# EAGLE library part HARFLEX-1515012-601 (library customics)
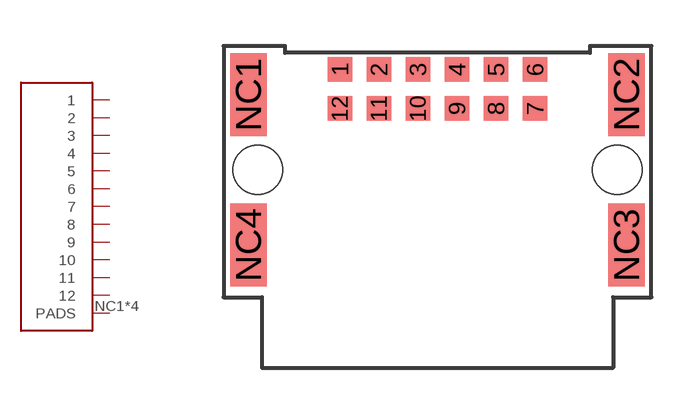
[diagram p7: symbol with the pads of HARFLEX-1515012-601; footprint HARFLEX-1515012-601]

Designator prefix P

## HARFLEX-1515012-601  [HARFLEX-1515012-601]
1  1
2  2
3  3
4  4
5  5
6  6
7  7
8  8
9  9
10  10
11  11
12  12
NC1  PADS
NC2  PADS
NC3  PADS
NC4  PADS

## Footprint HARFLEX-1515012-601 (pad centres in mm)
smd 0.8 x 0.8: 1 -3.175,3.27; 2 -1.905,3.27; 3 -0.635,3.27; 4 0.635,3.27; 5 1.905,3.27; 6 3.175,3.27; 7 3.175,2; 8 1.905,2; 9 0.635,2; 10 -0.635,2; 11 -1.905,2; 12 -3.175,2
smd 1.2 x 2.7: NC1 -6.15,2.45; NC2 6.15,2.45; NC3 6.15,-2.45; NC4 -6.15,-2.45
hole 1.6 at -5.85,0
hole 1.6 at 5.85,0